# Altium schematic symbol library kmilo17pet-AD_Isolators.SchLib: 645 symbols (part 26 of 36)
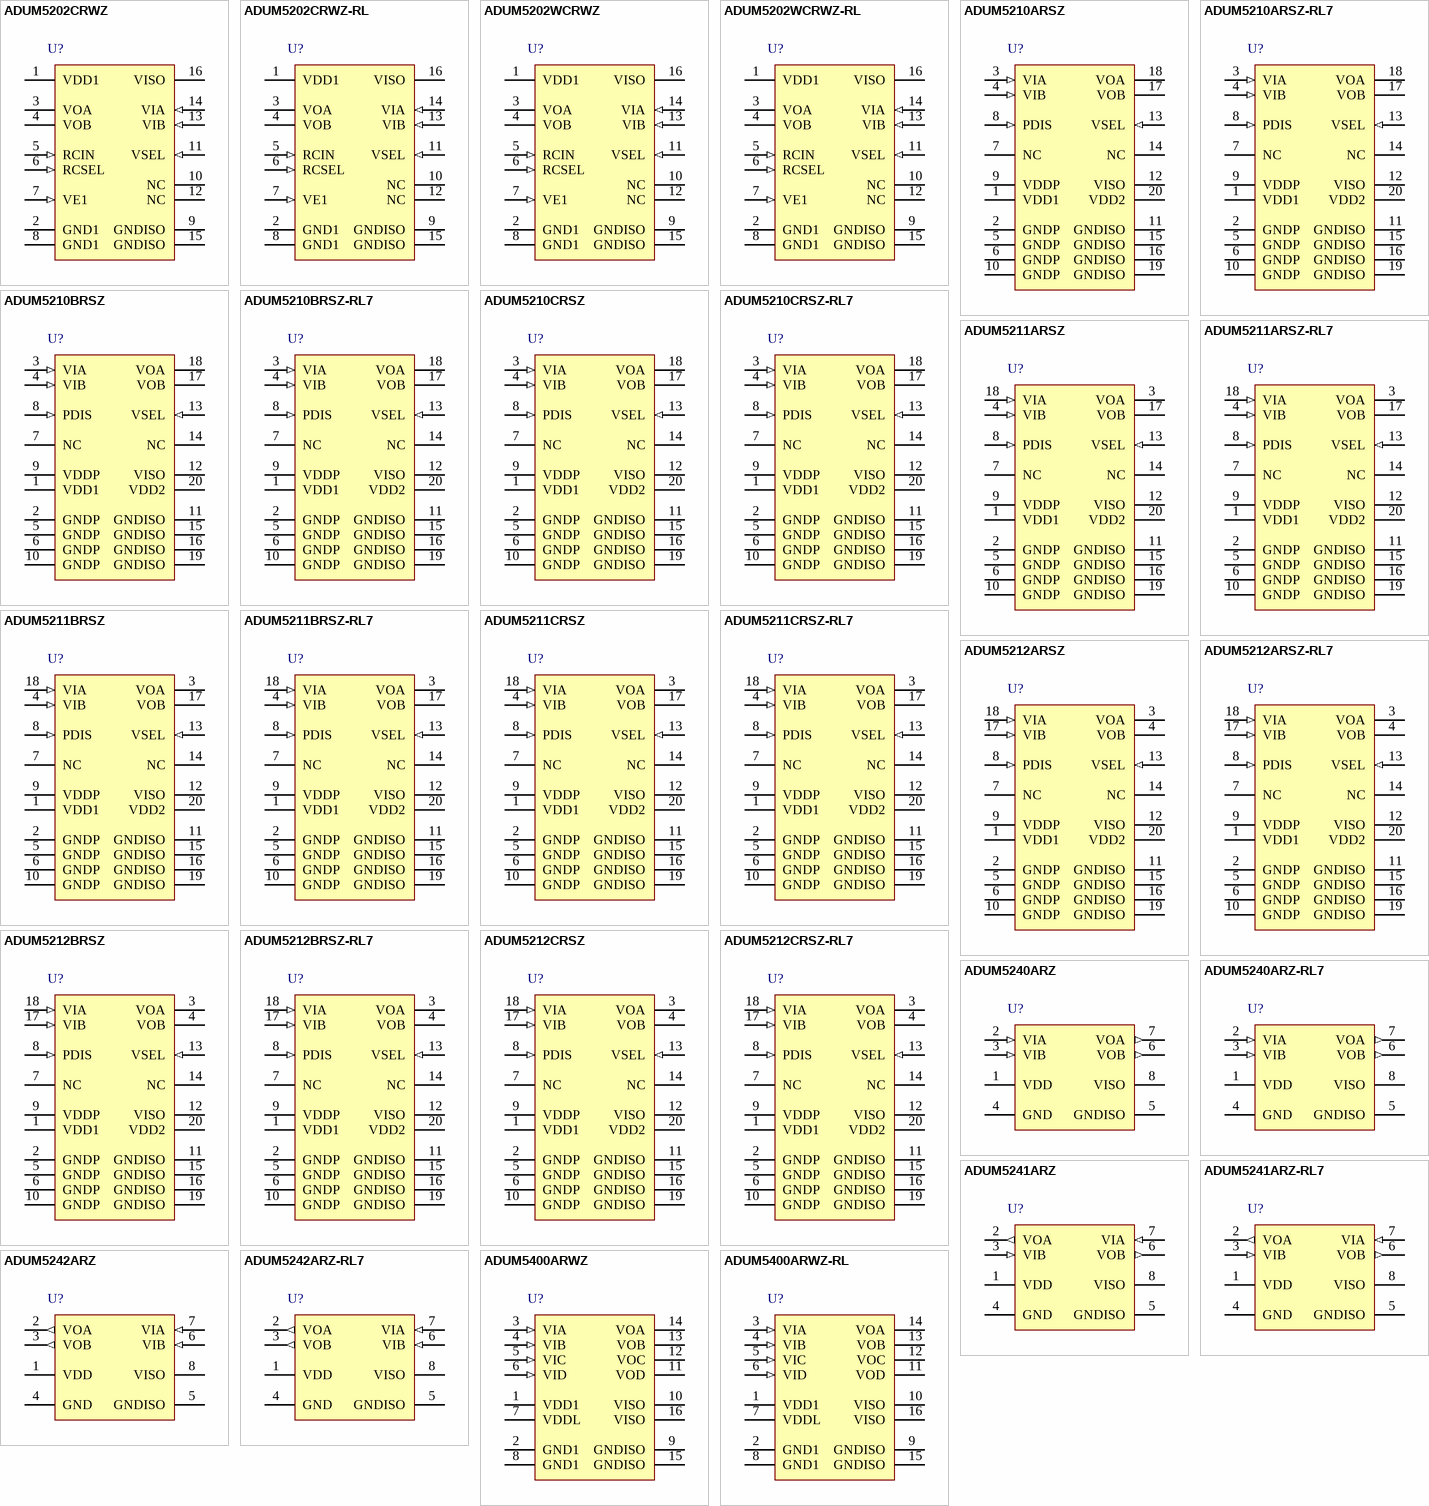
[diagram p45: symbols ADUM5202CRWZ to ADUM5400ARWZ-RL]

## ADUM5242ARZ
designator U?
Dual Channel Isolator with Integrated DC / DC Converter, 2.5 KV rms Insulation Rating, 1 Mbps Data Rate, 70 ns Delay, Industrial, 8-pin SOIC (R-8), Tube; Manufacturer: Analog Devices; PartNumber: ADUM5242ARZ; Insulation Rating (kVrms): 2.5; Max Data Rate: 1Mbps; Prop Delay: 70ns; DatasheetVersion: Rev. B; PackageVersion: 060506-A, 06/2006; PackageReference: R-8; PackageDescription: 8-Pin Standard Small Outline Package, Body 4.9 x 3.9 mm, Pitch 1.27 mm; Supplier 1: Digi-Key; Supplier Part Number 1: ADUM5242ARZ-ND; Max Operating Temp (degreesC): 105; Mounting Technology: Surface Mount; Code_JEDEC: MS-012-AA; ComponentLink1Description: Manufacturer URL; ComponentLink1URL: http://www.analog.com/en/index.html; ComponentLink2Description: Datasheet; ComponentLink2URL: http://www.analog.com/static/imported-files/data_sheets/ADUM5240_5241_5242.pdf; ComponentLink3Description: Package Specification; ComponentLink3URL: http://www.analog.com/static/imported-files/packages/PKG_PDF/SOIC_Narrow%20(R)/R_8.pdf
footprint ADI-R-8_N (SOIC, 8-Leads, Body 4.9x3.9mm, Pitch 1.27mm, IPC Medium Density)
footprint ADI-R-8_L (SOIC, 8-Leads, Body 4.9x3.9mm, Pitch 1.27mm, IPC High Density)
footprint ADI-R-8_M (SOIC, 8-Leads, Body 4.9x3.9mm, Pitch 1.27mm, IPC Low Density)
pins: 1 VDD (power) "Supply Voltage for Isolator Primary Side, 4.5 V to 5.5 V (DC-to-DC Enabled) and 2.7 V to 4.0 V (DC-to-DC Disabled).", 2 VOA (out) "Logic Output A.", 3 VOB (out) "Logic Output B.", 4 GND (power) "Ground. Ground reference for isolator primary side.", 5 GNDISO (power) "Isolated Ground. Ground reference for isolator secondary side.", 6 VIB (in) "Logic Input B.", 7 VIA (in) "Logic Input A.", 8 VISO (power) "Isolated Supply Voltage for Isolator Secondary Side, 4.5 V to 5.5 V Output (DC-to-DC Enabled), and 2.7 V to 5.5 V Input (DC-to-DC Disabled)."

## ADUM5242ARZ-RL7
designator U?
Dual Channel Isolator with Integrated DC / DC Converter, 2.5 KV rms Insulation Rating, 1 Mbps Data Rate, 70 ns Delay, Industrial, 8-pin SOIC (R-8), Reel; Manufacturer: Analog Devices; PartNumber: ADUM5242ARZ-RL7; Insulation Rating (kVrms): 2.5; Max Data Rate: 1Mbps; Prop Delay: 70ns; DatasheetVersion: Rev. B; PackageVersion: 060506-A, 06/2006; PackageReference: R-8; PackageDescription: 8-Pin Standard Small Outline Package, Body 4.9 x 3.9 mm, Pitch 1.27 mm; Supplier 1: Digi-Key; Supplier Part Number 1: ADUM5242ARZ-RL7TR-ND; Max Operating Temp (degreesC): 105; Mounting Technology: Surface Mount; Code_JEDEC: MS-012-AA; ComponentLink1Description: Manufacturer URL; ComponentLink1URL: http://www.analog.com/en/index.html; ComponentLink2Description: Datasheet; ComponentLink2URL: http://www.analog.com/static/imported-files/data_sheets/ADUM5240_5241_5242.pdf; ComponentLink3Description: Package Specification; ComponentLink3URL: http://www.analog.com/static/imported-files/packages/PKG_PDF/SOIC_Narrow%20(R)/R_8.pdf
footprint ADI-R-8_N (SOIC, 8-Leads, Body 4.9x3.9mm, Pitch 1.27mm, IPC Medium Density)
footprint ADI-R-8_L (SOIC, 8-Leads, Body 4.9x3.9mm, Pitch 1.27mm, IPC High Density)
footprint ADI-R-8_M (SOIC, 8-Leads, Body 4.9x3.9mm, Pitch 1.27mm, IPC Low Density)
pins: 1 VDD (power) "Supply Voltage for Isolator Primary Side, 4.5 V to 5.5 V (DC-to-DC Enabled) and 2.7 V to 4.0 V (DC-to-DC Disabled).", 2 VOA (out) "Logic Output A.", 3 VOB (out) "Logic Output B.", 4 GND (power) "Ground. Ground reference for isolator primary side.", 5 GNDISO (power) "Isolated Ground. Ground reference for isolator secondary side.", 6 VIB (in) "Logic Input B.", 7 VIA (in) "Logic Input A.", 8 VISO (power) "Isolated Supply Voltage for Isolator Secondary Side, 4.5 V to 5.5 V Output (DC-to-DC Enabled), and 2.7 V to 5.5 V Input (DC-to-DC Disabled)."

## ADUM5400ARWZ
designator U?
Dual Channel Isolator with Integrated DC / DC Converter, 2.5 KV rms Insulation Rating, 1 Mbps Data Rate, 100 ns Delay, Industrial, 16-pin SOIC (RW-16), Tube; Manufacturer: Analog Devices; PartNumber: ADUM5400ARWZ; Insulation Rating (kVrms): 2.5; Max Data Rate: 1Mbps; Prop Delay: 100ns; DatasheetVersion: Rev. B; PackageVersion: 032707-B, 03/2007; PackageReference: RW-16; PackageDescription: 16-Pin Standard Small Outline Package, Body 10.3 x 7.5 mm, Pitch 1.27 mm; Supplier 1: Digi-Key; Supplier Part Number 1: ADUM5400ARWZ-ND; Max Operating Temp (degreesC): 105; Mounting Technology: Surface Mount; Code_JEDEC: MS-013-AA; ComponentLink1Description: Manufacturer URL; ComponentLink1URL: http://www.analog.com/en/index.html; ComponentLink2Description: Datasheet; ComponentLink2URL: http://www.analog.com/static/imported-files/data_sheets/ADuM5400.pdf; ComponentLink3Description: Package Specification; ComponentLink3URL: http://www.analog.com/static/imported-files/packages/PKG_PDF/SOIC_WIDE%20%28RW%29/RW_16.pdf; ComponentLink4Description: URL Link1; ComponentLink4URL: Reference Circuit:http://www.analog.com/en/interface-isolation/digital-isolators/adum5400/products/product.html#product-recommendations
footprint ADI-RW-16_N (SOIC, 16-Leads, Body 10.3x7.5mm, Pitch 1.27mm, IPC Medium Density)
footprint ADI-RW-16_L (SOIC, 16-Leads, Body 10.3x7.5mm, Pitch 1.27mm, IPC High Density)
footprint ADI-RW-16_M (SOIC, 16-Leads, Body 10.3x7.5mm, Pitch 1.27mm, IPC Low Density)
pins: 1 VDD1 (power) "Primary Supply Voltage, 4.5 V to 5.5 V.", 2 GND1 (power) "Ground 1. Ground reference for isolator primary. Pin 2 and Pin 8 are internally connected to each other, and it is recommended that both pins be connected to a common ground.", 3 VIA (in) "Logic Input A.", 4 VIB (in) "Logic Input B.", 5 VIC (in) "Logic Input C.", 6 VID (in) "Logic Input D.", 7 VDDL (power) "Logic Power Supply Voltage. This pin must be connected to VDD1 and have a dedicated bypass capacitor.", 8 GND1 (power) "Ground 1. Ground reference for isolator primary. Pin 2 and Pin 8 are internally connected to each other, and it is recommended that both pins be connected to a common ground.", 9 GNDISO (power) "Ground Reference for Isolator Side 2. Pin 9 and Pin 15 are internally connected to each other, and it is recommended that both pins be connected to a common ground.", 10 VISO (power) "Secondary Supply Voltage Output for External Loads, 5.0 V. These pins are not tied together internally and must be connected together on the PCB.", 11 VOD (hiz) "Logic Output D.", 12 VOC (hiz) "Logic Output C.", 13 VOB (hiz) "Logic Output B.", 14 VOA (hiz) "Logic Output A.", 15 GNDISO (power) "Ground Reference for Isolator Side 2. Pin 9 and Pin 15 are internally connected to each other, and it is recommended that both pins be connected to a common ground.", 16 VISO (power) "Secondary Supply Voltage Output for External Loads, 5.0 V. These pins are not tied together internally and must be connected together on the PCB."

## ADUM5400ARWZ-RL
designator U?
Dual Channel Isolator with Integrated DC / DC Converter, 2.5 KV rms Insulation Rating, 1 Mbps Data Rate, 100 ns Delay, Industrial, 16-pin SOIC (RW-16), Reel; Manufacturer: Analog Devices; PartNumber: ADUM5400ARWZ-RL; Insulation Rating (kVrms): 2.5; Max Data Rate: 1Mbps; Prop Delay: 100ns; DatasheetVersion: Rev. B; PackageVersion: 032707-B, 03/2007; PackageReference: RW-16; PackageDescription: 16-Pin Standard Small Outline Package, Body 10.3 x 7.5 mm, Pitch 1.27 mm; Supplier 1: Digi-Key; Supplier Part Number 1: ADUM5400ARWZ-RL-ND; Max Operating Temp (degreesC): 105; Mounting Technology: Surface Mount; Code_JEDEC: MS-013-AA; ComponentLink1Description: Manufacturer URL; ComponentLink1URL: http://www.analog.com/en/index.html; ComponentLink2Description: Datasheet; ComponentLink2URL: http://www.analog.com/static/imported-files/data_sheets/ADuM5400.pdf; ComponentLink3Description: Package Specification; ComponentLink3URL: http://www.analog.com/static/imported-files/packages/PKG_PDF/SOIC_WIDE%20%28RW%29/RW_16.pdf; ComponentLink4Description: URL Link1; ComponentLink4URL: Reference Circuit:http://www.analog.com/en/interface-isolation/digital-isolators/adum5400/products/product.html#product-recommendations
footprint ADI-RW-16_N (SOIC, 16-Leads, Body 10.3x7.5mm, Pitch 1.27mm, IPC Medium Density)
footprint ADI-RW-16_L (SOIC, 16-Leads, Body 10.3x7.5mm, Pitch 1.27mm, IPC High Density)
footprint ADI-RW-16_M (SOIC, 16-Leads, Body 10.3x7.5mm, Pitch 1.27mm, IPC Low Density)
pins: 1 VDD1 (power) "Primary Supply Voltage, 4.5 V to 5.5 V.", 2 GND1 (power) "Ground 1. Ground reference for isolator primary. Pin 2 and Pin 8 are internally connected to each other, and it is recommended that both pins be connected to a common ground.", 3 VIA (in) "Logic Input A.", 4 VIB (in) "Logic Input B.", 5 VIC (in) "Logic Input C.", 6 VID (in) "Logic Input D.", 7 VDDL (power) "Logic Power Supply Voltage. This pin must be connected to VDD1 and have a dedicated bypass capacitor.", 8 GND1 (power) "Ground 1. Ground reference for isolator primary. Pin 2 and Pin 8 are internally connected to each other, and it is recommended that both pins be connected to a common ground.", 9 GNDISO (power) "Ground Reference for Isolator Side 2. Pin 9 and Pin 15 are internally connected to each other, and it is recommended that both pins be connected to a common ground.", 10 VISO (power) "Secondary Supply Voltage Output for External Loads, 5.0 V. These pins are not tied together internally and must be connected together on the PCB.", 11 VOD (hiz) "Logic Output D.", 12 VOC (hiz) "Logic Output C.", 13 VOB (hiz) "Logic Output B.", 14 VOA (hiz) "Logic Output A.", 15 GNDISO (power) "Ground Reference for Isolator Side 2. Pin 9 and Pin 15 are internally connected to each other, and it is recommended that both pins be connected to a common ground.", 16 VISO (power) "Secondary Supply Voltage Output for External Loads, 5.0 V. These pins are not tied together internally and must be connected together on the PCB."

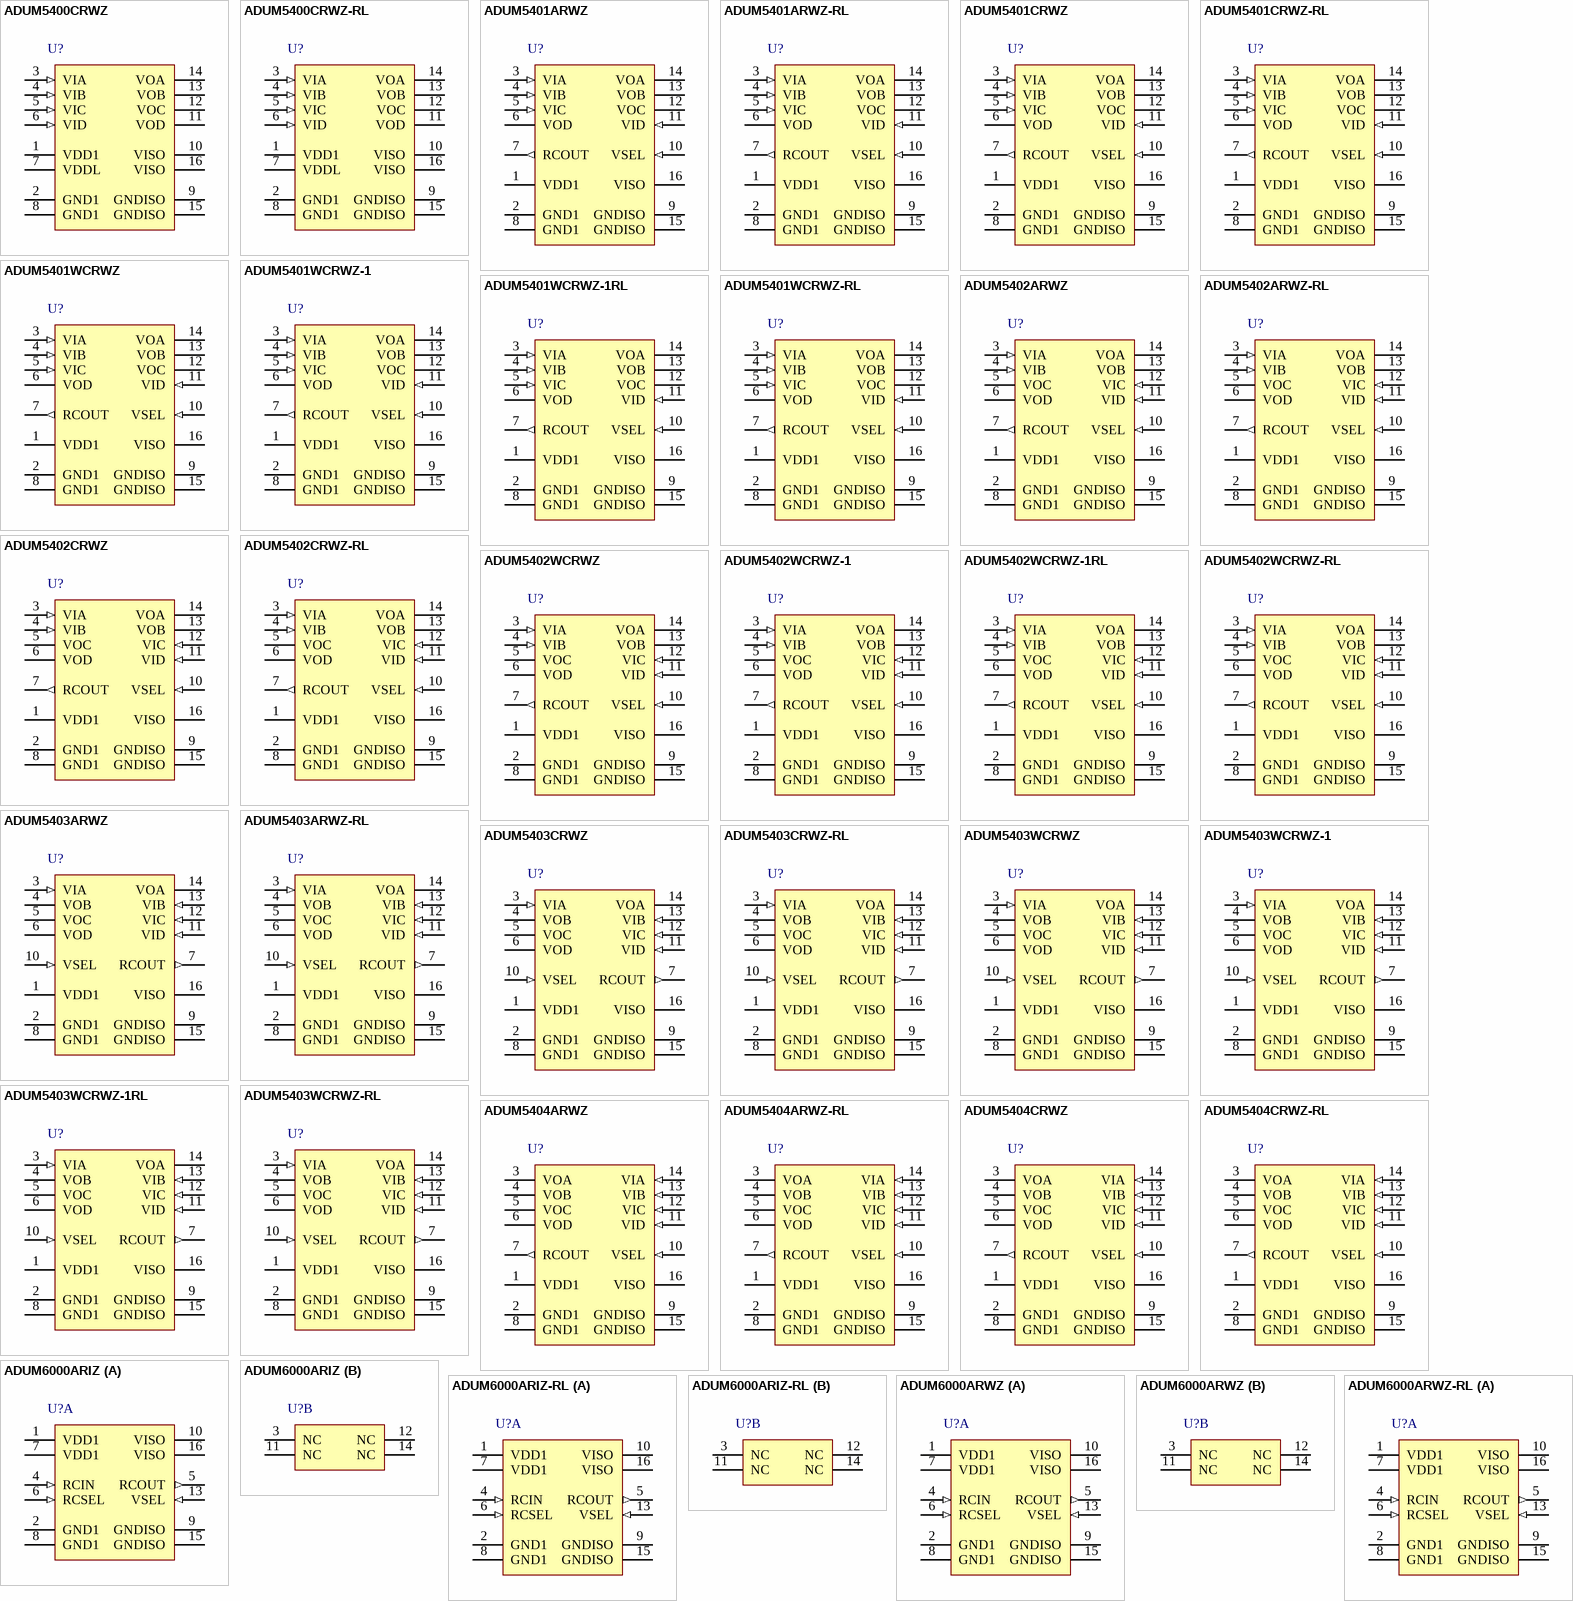
[diagram p16: symbols ADUM5400CRWZ to ADUM6000ARWZ-RL]

## ADUM5400CRWZ
designator U?
Dual Channel Isolator with Integrated DC / DC Converter, 2.5 KV rms Insulation Rating, 25 Mbps Data Rate, 60 ns Delay, Industrial, 16-pin SOIC (RW-16), Tube; Manufacturer: Analog Devices; PartNumber: ADUM5400CRWZ; Insulation Rating (kVrms): 2.5; Max Data Rate: 25Mbps; Prop Delay: 60ns; DatasheetVersion: Rev. B; PackageVersion: 032707-B, 03/2007; PackageReference: RW-16; PackageDescription: 16-Pin Standard Small Outline Package, Body 10.3 x 7.5 mm, Pitch 1.27 mm; Supplier 1: Digi-Key; Supplier Part Number 1: ADUM5400CRWZ-ND; Max Operating Temp (degreesC): 105; Mounting Technology: Surface Mount; Code_JEDEC: MS-013-AA; ComponentLink1Description: Manufacturer URL; ComponentLink1URL: http://www.analog.com/en/index.html; ComponentLink2Description: Datasheet; ComponentLink2URL: http://www.analog.com/static/imported-files/data_sheets/ADuM5400.pdf; ComponentLink3Description: Package Specification; ComponentLink3URL: http://www.analog.com/static/imported-files/packages/PKG_PDF/SOIC_WIDE%20%28RW%29/RW_16.pdf; ComponentLink4Description: URL Link1; ComponentLink4URL: Reference Circuit:http://www.analog.com/en/interface-isolation/digital-isolators/adum5400/products/product.html#product-recommendations
footprint ADI-RW-16_N (SOIC, 16-Leads, Body 10.3x7.5mm, Pitch 1.27mm, IPC Medium Density)
footprint ADI-RW-16_L (SOIC, 16-Leads, Body 10.3x7.5mm, Pitch 1.27mm, IPC High Density)
footprint ADI-RW-16_M (SOIC, 16-Leads, Body 10.3x7.5mm, Pitch 1.27mm, IPC Low Density)
pins: 1 VDD1 (power) "Primary Supply Voltage, 4.5 V to 5.5 V.", 2 GND1 (power) "Ground 1. Ground reference for isolator primary. Pin 2 and Pin 8 are internally connected to each other, and it is recommended that both pins be connected to a common ground.", 3 VIA (in) "Logic Input A.", 4 VIB (in) "Logic Input B.", 5 VIC (in) "Logic Input C.", 6 VID (in) "Logic Input D.", 7 VDDL (power) "Logic Power Supply Voltage. This pin must be connected to VDD1 and have a dedicated bypass capacitor.", 8 GND1 (power) "Ground 1. Ground reference for isolator primary. Pin 2 and Pin 8 are internally connected to each other, and it is recommended that both pins be connected to a common ground.", 9 GNDISO (power) "Ground Reference for Isolator Side 2. Pin 9 and Pin 15 are internally connected to each other, and it is recommended that both pins be connected to a common ground.", 10 VISO (power) "Secondary Supply Voltage Output for External Loads, 5.0 V. These pins are not tied together internally and must be connected together on the PCB.", 11 VOD (hiz) "Logic Output D.", 12 VOC (hiz) "Logic Output C.", 13 VOB (hiz) "Logic Output B.", 14 VOA (hiz) "Logic Output A.", 15 GNDISO (power) "Ground Reference for Isolator Side 2. Pin 9 and Pin 15 are internally connected to each other, and it is recommended that both pins be connected to a common ground.", 16 VISO (power) "Secondary Supply Voltage Output for External Loads, 5.0 V. These pins are not tied together internally and must be connected together on the PCB."

## ADUM5400CRWZ-RL
designator U?
Dual Channel Isolator with Integrated DC / DC Converter, 2.5 KV rms Insulation Rating, 25 Mbps Data Rate, 60 ns Delay, Industrial, 16-pin SOIC (RW-16), Reel; Manufacturer: Analog Devices; PartNumber: ADUM5400CRWZ-RL; Insulation Rating (kVrms): 2.5; Max Data Rate: 25Mbps; Prop Delay: 60ns; DatasheetVersion: Rev. B; PackageVersion: 032707-B, 03/2007; PackageReference: RW-16; PackageDescription: 16-Pin Standard Small Outline Package, Body 10.3 x 7.5 mm, Pitch 1.27 mm; Supplier 1: Digi-Key; Supplier Part Number 1: ADUM5400CRWZ-RL-ND; Max Operating Temp (degreesC): 105; Mounting Technology: Surface Mount; Code_JEDEC: MS-013-AA; ComponentLink1Description: Manufacturer URL; ComponentLink1URL: http://www.analog.com/en/index.html; ComponentLink2Description: Datasheet; ComponentLink2URL: http://www.analog.com/static/imported-files/data_sheets/ADuM5400.pdf; ComponentLink3Description: Package Specification; ComponentLink3URL: http://www.analog.com/static/imported-files/packages/PKG_PDF/SOIC_WIDE%20%28RW%29/RW_16.pdf; ComponentLink4Description: URL Link1; ComponentLink4URL: Reference Circuit:http://www.analog.com/en/interface-isolation/digital-isolators/adum5400/products/product.html#product-recommendations
footprint ADI-RW-16_N (SOIC, 16-Leads, Body 10.3x7.5mm, Pitch 1.27mm, IPC Medium Density)
footprint ADI-RW-16_L (SOIC, 16-Leads, Body 10.3x7.5mm, Pitch 1.27mm, IPC High Density)
footprint ADI-RW-16_M (SOIC, 16-Leads, Body 10.3x7.5mm, Pitch 1.27mm, IPC Low Density)
pins: 1 VDD1 (power) "Primary Supply Voltage, 4.5 V to 5.5 V.", 2 GND1 (power) "Ground 1. Ground reference for isolator primary. Pin 2 and Pin 8 are internally connected to each other, and it is recommended that both pins be connected to a common ground.", 3 VIA (in) "Logic Input A.", 4 VIB (in) "Logic Input B.", 5 VIC (in) "Logic Input C.", 6 VID (in) "Logic Input D.", 7 VDDL (power) "Logic Power Supply Voltage. This pin must be connected to VDD1 and have a dedicated bypass capacitor.", 8 GND1 (power) "Ground 1. Ground reference for isolator primary. Pin 2 and Pin 8 are internally connected to each other, and it is recommended that both pins be connected to a common ground.", 9 GNDISO (power) "Ground Reference for Isolator Side 2. Pin 9 and Pin 15 are internally connected to each other, and it is recommended that both pins be connected to a common ground.", 10 VISO (power) "Secondary Supply Voltage Output for External Loads, 5.0 V. These pins are not tied together internally and must be connected together on the PCB.", 11 VOD (hiz) "Logic Output D.", 12 VOC (hiz) "Logic Output C.", 13 VOB (hiz) "Logic Output B.", 14 VOA (hiz) "Logic Output A.", 15 GNDISO (power) "Ground Reference for Isolator Side 2. Pin 9 and Pin 15 are internally connected to each other, and it is recommended that both pins be connected to a common ground.", 16 VISO (power) "Secondary Supply Voltage Output for External Loads, 5.0 V. These pins are not tied together internally and must be connected together on the PCB."

## ADUM5401ARWZ
designator U?
Quad Channel Isolator with Integrated DC / DC Converter, 2.5 KV rms Insulation Rating, 1 Mbps Data Rate, 100 ns Delay, Industrial, 16-pin SOIC (RW-16), Tube; Manufacturer: Analog Devices; PartNumber: ADUM5401ARWZ; Insulation Rating (kVrms): 2.5; Max Data Rate: 1Mbps; Prop Delay: 100ns; DatasheetVersion: Rev. C; PackageVersion: 032707-B, 03/2007; PackageReference: RW-16; PackageDescription: 16-Pin Standard Small Outline Package, Body 10.3 x 7.5 mm, Pitch 1.27 mm; Supplier 1: Digi-Key; Supplier Part Number 1: ADUM5401ARWZ-ND; Max Operating Temp (degreesC): 105; Mounting Technology: Surface Mount; Code_JEDEC: MS-013-AA; ComponentLink1Description: Manufacturer URL; ComponentLink1URL: http://www.analog.com/en/index.html; ComponentLink2Description: Datasheet; ComponentLink2URL: http://www.analog.com/static/imported-files/data_sheets/ADuM5401_5402_5403_5404.pdf; ComponentLink3Description: Package Specification; ComponentLink3URL: http://www.analog.com/static/imported-files/packages/PKG_PDF/SOIC_WIDE%20%28RW%29/RW_16.pdf; ComponentLink4Description: URL Link1; ComponentLink4URL: Reference Circuit:http://www.analog.com/en/interface-isolation/digital-isolators/adum5401/products/product.html#product-recommendations
footprint ADI-RW-16_N (SOIC, 16-Leads, Body 10.3x7.5mm, Pitch 1.27mm, IPC Medium Density)
footprint ADI-RW-16_L (SOIC, 16-Leads, Body 10.3x7.5mm, Pitch 1.27mm, IPC High Density)
footprint ADI-RW-16_M (SOIC, 16-Leads, Body 10.3x7.5mm, Pitch 1.27mm, IPC Low Density)
pins: 1 VDD1 (power) "Primary Supply Voltage, 3.0 V to 5.5 V.", 2 GND1 (power) "Ground 1. Ground reference for isolator primary. Pin 2 and Pin 8 are internally connected, and it is recommended that both pins be connected to a common ground.", 3 VIA (in) "Logic Input A.", 4 VIB (in) "Logic Input B.", 5 VIC (in) "Logic Input C.", 6 VOD (hiz) "Logic Output D.", 7 RCOUT (out) "Regulation Control Output. This pin is connected to the RCIN pin of a slave isoPower device to allow the ADuM5401 to control the regulation of the slave device.", 8 GND1 (power) "Ground 1. Ground reference for isolator primary. Pin 2 and Pin 8 are internally connected, and it is recommended that both pins be connected to a common ground.", 9 GNDISO (power) "Ground Reference for Isolator Side 2. Pin 9 and Pin 15 are internally connected, and it is recommended that both pins be connected to a common ground.", 10 VSEL (in) "Output Voltage Selection. When VSEL = VISO, the VISO setpoint is 5.0 V. When VSEL = GNDISO, the VISO setpoint is 3.3 V.", 11 VID (in) "Logic Input D.", 12 VOC (hiz) "Logic Output C.", 13 VOB (hiz) "Logic Output B.", 14 VOA (hiz) "Logic Output A.", 15 GNDISO (power) "Ground Reference for Isolator Side 2. Pin 9 and Pin 15 are internally connected, and it is recommended that both pins be connected to a common ground.", 16 VISO (power) "Secondary Supply Voltage Output for External Loads, 3.3 V (VSEL Low) or 5.0 V (VSEL High)."

## ADUM5401ARWZ-RL
designator U?
Quad Channel Isolator with Integrated DC / DC Converter, 2.5 KV rms Insulation Rating, 1 Mbps Data Rate, 100 ns Delay, Industrial, 16-pin SOIC (RW-16), Reel; Manufacturer: Analog Devices; PartNumber: ADUM5401ARWZ-RL; Insulation Rating (kVrms): 2.5; Max Data Rate: 1Mbps; Prop Delay: 100ns; DatasheetVersion: Rev. C; PackageVersion: 032707-B, 03/2007; PackageReference: RW-16; PackageDescription: 16-Pin Standard Small Outline Package, Body 10.3 x 7.5 mm, Pitch 1.27 mm; Supplier 1: Digi-Key; Supplier Part Number 1: ADUM5401ARWZ-RLTR-ND; Max Operating Temp (degreesC): 105; Mounting Technology: Surface Mount; Code_JEDEC: MS-013-AA; ComponentLink1Description: Manufacturer URL; ComponentLink1URL: http://www.analog.com/en/index.html; ComponentLink2Description: Datasheet; ComponentLink2URL: http://www.analog.com/static/imported-files/data_sheets/ADuM5401_5402_5403_5404.pdf; ComponentLink3Description: Package Specification; ComponentLink3URL: http://www.analog.com/static/imported-files/packages/PKG_PDF/SOIC_WIDE%20%28RW%29/RW_16.pdf; ComponentLink4Description: URL Link1; ComponentLink4URL: Reference Circuit:http://www.analog.com/en/interface-isolation/digital-isolators/adum5401/products/product.html#product-recommendations
footprint ADI-RW-16_N (SOIC, 16-Leads, Body 10.3x7.5mm, Pitch 1.27mm, IPC Medium Density)
footprint ADI-RW-16_L (SOIC, 16-Leads, Body 10.3x7.5mm, Pitch 1.27mm, IPC High Density)
footprint ADI-RW-16_M (SOIC, 16-Leads, Body 10.3x7.5mm, Pitch 1.27mm, IPC Low Density)
pins: 1 VDD1 (power) "Primary Supply Voltage, 3.0 V to 5.5 V.", 2 GND1 (power) "Ground 1. Ground reference for isolator primary. Pin 2 and Pin 8 are internally connected, and it is recommended that both pins be connected to a common ground.", 3 VIA (in) "Logic Input A.", 4 VIB (in) "Logic Input B.", 5 VIC (in) "Logic Input C.", 6 VOD (hiz) "Logic Output D.", 7 RCOUT (out) "Regulation Control Output. This pin is connected to the RCIN pin of a slave isoPower device to allow the ADuM5401 to control the regulation of the slave device.", 8 GND1 (power) "Ground 1. Ground reference for isolator primary. Pin 2 and Pin 8 are internally connected, and it is recommended that both pins be connected to a common ground.", 9 GNDISO (power) "Ground Reference for Isolator Side 2. Pin 9 and Pin 15 are internally connected, and it is recommended that both pins be connected to a common ground.", 10 VSEL (in) "Output Voltage Selection. When VSEL = VISO, the VISO setpoint is 5.0 V. When VSEL = GNDISO, the VISO setpoint is 3.3 V.", 11 VID (in) "Logic Input D.", 12 VOC (hiz) "Logic Output C.", 13 VOB (hiz) "Logic Output B.", 14 VOA (hiz) "Logic Output A.", 15 GNDISO (power) "Ground Reference for Isolator Side 2. Pin 9 and Pin 15 are internally connected, and it is recommended that both pins be connected to a common ground.", 16 VISO (power) "Secondary Supply Voltage Output for External Loads, 3.3 V (VSEL Low) or 5.0 V (VSEL High)."

## ADUM5401CRWZ
designator U?
Quad Channel Isolator with Integrated DC / DC Converter, 2.5 KV rms Insulation Rating, 25 Mbps Data Rate, 60 ns Delay, Industrial, 16-pin SOIC (RW-16), Tube; Manufacturer: Analog Devices; PartNumber: ADUM5401CRWZ; Insulation Rating (kVrms): 2.5; Max Data Rate: 25Mbps; Prop Delay: 60ns; DatasheetVersion: Rev. C; PackageVersion: 032707-B, 03/2007; PackageReference: RW-16; PackageDescription: 16-Pin Standard Small Outline Package, Body 10.3 x 7.5 mm, Pitch 1.27 mm; Supplier 1: Digi-Key; Supplier Part Number 1: ADUM5401CRWZ-ND; Max Operating Temp (degreesC): 105; Mounting Technology: Surface Mount; Code_JEDEC: MS-013-AA; ComponentLink1Description: Manufacturer URL; ComponentLink1URL: http://www.analog.com/en/index.html; ComponentLink2Description: Datasheet; ComponentLink2URL: http://www.analog.com/static/imported-files/data_sheets/ADuM5401_5402_5403_5404.pdf; ComponentLink3Description: Package Specification; ComponentLink3URL: http://www.analog.com/static/imported-files/packages/PKG_PDF/SOIC_WIDE%20%28RW%29/RW_16.pdf; ComponentLink4Description: URL Link1; ComponentLink4URL: Reference Circuit:http://www.analog.com/en/interface-isolation/digital-isolators/adum5401/products/product.html#product-recommendations
footprint ADI-RW-16_N (SOIC, 16-Leads, Body 10.3x7.5mm, Pitch 1.27mm, IPC Medium Density)
footprint ADI-RW-16_L (SOIC, 16-Leads, Body 10.3x7.5mm, Pitch 1.27mm, IPC High Density)
footprint ADI-RW-16_M (SOIC, 16-Leads, Body 10.3x7.5mm, Pitch 1.27mm, IPC Low Density)
pins: 1 VDD1 (power) "Primary Supply Voltage, 3.0 V to 5.5 V.", 2 GND1 (power) "Ground 1. Ground reference for isolator primary. Pin 2 and Pin 8 are internally connected, and it is recommended that both pins be connected to a common ground.", 3 VIA (in) "Logic Input A.", 4 VIB (in) "Logic Input B.", 5 VIC (in) "Logic Input C.", 6 VOD (hiz) "Logic Output D.", 7 RCOUT (out) "Regulation Control Output. This pin is connected to the RCIN pin of a slave isoPower device to allow the ADuM5401 to control the regulation of the slave device.", 8 GND1 (power) "Ground 1. Ground reference for isolator primary. Pin 2 and Pin 8 are internally connected, and it is recommended that both pins be connected to a common ground.", 9 GNDISO (power) "Ground Reference for Isolator Side 2. Pin 9 and Pin 15 are internally connected, and it is recommended that both pins be connected to a common ground.", 10 VSEL (in) "Output Voltage Selection. When VSEL = VISO, the VISO setpoint is 5.0 V. When VSEL = GNDISO, the VISO setpoint is 3.3 V.", 11 VID (in) "Logic Input D.", 12 VOC (hiz) "Logic Output C.", 13 VOB (hiz) "Logic Output B.", 14 VOA (hiz) "Logic Output A.", 15 GNDISO (power) "Ground Reference for Isolator Side 2. Pin 9 and Pin 15 are internally connected, and it is recommended that both pins be connected to a common ground.", 16 VISO (power) "Secondary Supply Voltage Output for External Loads, 3.3 V (VSEL Low) or 5.0 V (VSEL High)."

## ADUM5401CRWZ-RL
designator U?
Quad Channel Isolator with Integrated DC / DC Converter, 2.5 KV rms Insulation Rating, 25 Mbps Data Rate, 60 ns Delay, Industrial, 16-pin SOIC (RW-16), Reel; Manufacturer: Analog Devices; PartNumber: ADUM5401CRWZ-RL; Insulation Rating (kVrms): 2.5; Max Data Rate: 25Mbps; Prop Delay: 60ns; DatasheetVersion: Rev. C; PackageVersion: 032707-B, 03/2007; PackageReference: RW-16; PackageDescription: 16-Pin Standard Small Outline Package, Body 10.3 x 7.5 mm, Pitch 1.27 mm; Supplier 1: Digi-Key; Supplier Part Number 1: ADUM5401CRWZ-RLTR-ND; Max Operating Temp (degreesC): 105; Mounting Technology: Surface Mount; Code_JEDEC: MS-013-AA; ComponentLink1Description: Manufacturer URL; ComponentLink1URL: http://www.analog.com/en/index.html; ComponentLink2Description: Datasheet; ComponentLink2URL: http://www.analog.com/static/imported-files/data_sheets/ADuM5401_5402_5403_5404.pdf; ComponentLink3Description: Package Specification; ComponentLink3URL: http://www.analog.com/static/imported-files/packages/PKG_PDF/SOIC_WIDE%20%28RW%29/RW_16.pdf; ComponentLink4Description: URL Link1; ComponentLink4URL: Reference Circuit:http://www.analog.com/en/interface-isolation/digital-isolators/adum5401/products/product.html#product-recommendations
footprint ADI-RW-16_N (SOIC, 16-Leads, Body 10.3x7.5mm, Pitch 1.27mm, IPC Medium Density)
footprint ADI-RW-16_L (SOIC, 16-Leads, Body 10.3x7.5mm, Pitch 1.27mm, IPC High Density)
footprint ADI-RW-16_M (SOIC, 16-Leads, Body 10.3x7.5mm, Pitch 1.27mm, IPC Low Density)
pins: 1 VDD1 (power) "Primary Supply Voltage, 3.0 V to 5.5 V.", 2 GND1 (power) "Ground 1. Ground reference for isolator primary. Pin 2 and Pin 8 are internally connected, and it is recommended that both pins be connected to a common ground.", 3 VIA (in) "Logic Input A.", 4 VIB (in) "Logic Input B.", 5 VIC (in) "Logic Input C.", 6 VOD (hiz) "Logic Output D.", 7 RCOUT (out) "Regulation Control Output. This pin is connected to the RCIN pin of a slave isoPower device to allow the ADuM5401 to control the regulation of the slave device.", 8 GND1 (power) "Ground 1. Ground reference for isolator primary. Pin 2 and Pin 8 are internally connected, and it is recommended that both pins be connected to a common ground.", 9 GNDISO (power) "Ground Reference for Isolator Side 2. Pin 9 and Pin 15 are internally connected, and it is recommended that both pins be connected to a common ground.", 10 VSEL (in) "Output Voltage Selection. When VSEL = VISO, the VISO setpoint is 5.0 V. When VSEL = GNDISO, the VISO setpoint is 3.3 V.", 11 VID (in) "Logic Input D.", 12 VOC (hiz) "Logic Output C.", 13 VOB (hiz) "Logic Output B.", 14 VOA (hiz) "Logic Output A.", 15 GNDISO (power) "Ground Reference for Isolator Side 2. Pin 9 and Pin 15 are internally connected, and it is recommended that both pins be connected to a common ground.", 16 VISO (power) "Secondary Supply Voltage Output for External Loads, 3.3 V (VSEL Low) or 5.0 V (VSEL High)."

## ADUM5401WCRWZ
designator U?
Quad Channel Isolator with Integrated DC / DC Converter, 2.5 KV rms Insulation Rating, 25 Mbps Data Rate, 60 ns Delay, Automotive, 16-pin SOIC (RW-16), Tube; Manufacturer: Analog Devices; PartNumber: ADUM5401WCRWZ; Automotive Qualified: Yes; Insulation Rating (kVrms): 2.5; Max Data Rate: 25Mbps; Prop Delay: 60ns; DatasheetVersion: Rev. C; PackageVersion: 032707-B, 03/2007; PackageReference: RW-16; PackageDescription: 16-Pin Standard Small Outline Package, Body 10.3 x 7.5 mm, Pitch 1.27 mm; Supplier 1: Digi-Key; Supplier Part Number 1: ADUM5401WCRWZ-ND; Max Operating Temp (degreesC): 105; Mounting Technology: Surface Mount; Code_JEDEC: MS-013-AA; ComponentLink1Description: Manufacturer URL; ComponentLink1URL: http://www.analog.com/en/index.html; ComponentLink2Description: Datasheet; ComponentLink2URL: http://www.analog.com/static/imported-files/data_sheets/ADuM5401_5402_5403_5404.pdf; ComponentLink3Description: Package Specification; ComponentLink3URL: http://www.analog.com/static/imported-files/packages/PKG_PDF/SOIC_WIDE%20%28RW%29/RW_16.pdf; ComponentLink4Description: URL Link1; ComponentLink4URL: Reference Circuit:http://www.analog.com/en/interface-isolation/digital-isolators/adum5401/products/product.html#product-recommendations
footprint ADI-RW-16_N (SOIC, 16-Leads, Body 10.3x7.5mm, Pitch 1.27mm, IPC Medium Density)
footprint ADI-RW-16_L (SOIC, 16-Leads, Body 10.3x7.5mm, Pitch 1.27mm, IPC High Density)
footprint ADI-RW-16_M (SOIC, 16-Leads, Body 10.3x7.5mm, Pitch 1.27mm, IPC Low Density)
pins: 1 VDD1 (power) "Primary Supply Voltage, 3.0 V to 5.5 V.", 2 GND1 (power) "Ground 1. Ground reference for isolator primary. Pin 2 and Pin 8 are internally connected, and it is recommended that both pins be connected to a common ground.", 3 VIA (in) "Logic Input A.", 4 VIB (in) "Logic Input B.", 5 VIC (in) "Logic Input C.", 6 VOD (hiz) "Logic Output D.", 7 RCOUT (out) "Regulation Control Output. This pin is connected to the RCIN pin of a slave isoPower device to allow the ADuM5401 to control the regulation of the slave device.", 8 GND1 (power) "Ground 1. Ground reference for isolator primary. Pin 2 and Pin 8 are internally connected, and it is recommended that both pins be connected to a common ground.", 9 GNDISO (power) "Ground Reference for Isolator Side 2. Pin 9 and Pin 15 are internally connected, and it is recommended that both pins be connected to a common ground.", 10 VSEL (in) "Output Voltage Selection. When VSEL = VISO, the VISO setpoint is 5.0 V. When VSEL = GNDISO, the VISO setpoint is 3.3 V.", 11 VID (in) "Logic Input D.", 12 VOC (hiz) "Logic Output C.", 13 VOB (hiz) "Logic Output B.", 14 VOA (hiz) "Logic Output A.", 15 GNDISO (power) "Ground Reference for Isolator Side 2. Pin 9 and Pin 15 are internally connected, and it is recommended that both pins be connected to a common ground.", 16 VISO (power) "Secondary Supply Voltage Output for External Loads, 3.3 V (VSEL Low) or 5.0 V (VSEL High)."

## ADUM5401WCRWZ-1
designator U?
Quad Channel Isolator with Integrated DC / DC Converter, 2.5 KV rms Insulation Rating, 25 Mbps Data Rate, 60 ns Delay, Automotive, 16-pin SOIC (RW-16), Tube; Manufacturer: Analog Devices; PartNumber: ADUM5401WCRWZ-1; Automotive Qualified: Yes; Insulation Rating (kVrms): 2.5; Max Data Rate: 25Mbps; Prop Delay: 60ns; DatasheetVersion: Rev. C; PackageVersion: 032707-B, 03/2007; PackageReference: RW-16; PackageDescription: 16-Pin Standard Small Outline Package, Body 10.3 x 7.5 mm, Pitch 1.27 mm; Supplier 1: Digi-Key; Supplier Part Number 1: ADUM5401WCRWZ-1-ND; Max Operating Temp (degreesC): 105; Mounting Technology: Surface Mount; Code_JEDEC: MS-013-AA; ComponentLink1Description: Manufacturer URL; ComponentLink1URL: http://www.analog.com/en/index.html; ComponentLink2Description: Datasheet; ComponentLink2URL: http://www.analog.com/static/imported-files/data_sheets/ADuM5401_5402_5403_5404.pdf; ComponentLink3Description: Package Specification; ComponentLink3URL: http://www.analog.com/static/imported-files/packages/PKG_PDF/SOIC_WIDE%20%28RW%29/RW_16.pdf; ComponentLink4Description: URL Link1; ComponentLink4URL: Reference Circuit:http://www.analog.com/en/interface-isolation/digital-isolators/adum5401/products/product.html#product-recommendations
footprint ADI-RW-16_N (SOIC, 16-Leads, Body 10.3x7.5mm, Pitch 1.27mm, IPC Medium Density)
footprint ADI-RW-16_L (SOIC, 16-Leads, Body 10.3x7.5mm, Pitch 1.27mm, IPC High Density)
footprint ADI-RW-16_M (SOIC, 16-Leads, Body 10.3x7.5mm, Pitch 1.27mm, IPC Low Density)
pins: 1 VDD1 (power) "Primary Supply Voltage, 3.0 V to 5.5 V.", 2 GND1 (power) "Ground 1. Ground reference for isolator primary. Pin 2 and Pin 8 are internally connected, and it is recommended that both pins be connected to a common ground.", 3 VIA (in) "Logic Input A.", 4 VIB (in) "Logic Input B.", 5 VIC (in) "Logic Input C.", 6 VOD (hiz) "Logic Output D.", 7 RCOUT (out) "Regulation Control Output. This pin is connected to the RCIN pin of a slave isoPower device to allow the ADuM5401 to control the regulation of the slave device.", 8 GND1 (power) "Ground 1. Ground reference for isolator primary. Pin 2 and Pin 8 are internally connected, and it is recommended that both pins be connected to a common ground.", 9 GNDISO (power) "Ground Reference for Isolator Side 2. Pin 9 and Pin 15 are internally connected, and it is recommended that both pins be connected to a common ground.", 10 VSEL (in) "Output Voltage Selection. When VSEL = VISO, the VISO setpoint is 5.0 V. When VSEL = GNDISO, the VISO setpoint is 3.3 V.", 11 VID (in) "Logic Input D.", 12 VOC (hiz) "Logic Output C.", 13 VOB (hiz) "Logic Output B.", 14 VOA (hiz) "Logic Output A.", 15 GNDISO (power) "Ground Reference for Isolator Side 2. Pin 9 and Pin 15 are internally connected, and it is recommended that both pins be connected to a common ground.", 16 VISO (power) "Secondary Supply Voltage Output for External Loads, 3.3 V (VSEL Low) or 5.0 V (VSEL High)."

## ADUM5401WCRWZ-1RL
designator U?
Quad Channel Isolator with Integrated DC / DC Converter, 2.5 KV rms Insulation Rating, 25 Mbps Data Rate, 60 ns Delay, Automotive, 16-pin SOIC (RW-16), Reel; Manufacturer: Analog Devices; PartNumber: ADUM5401WCRWZ-1RL; Automotive Qualified: Yes; Insulation Rating (kVrms): 2.5; Max Data Rate: 25Mbps; Prop Delay: 60ns; DatasheetVersion: Rev. C; PackageVersion: 032707-B, 03/2007; PackageReference: RW-16; PackageDescription: 16-Pin Standard Small Outline Package, Body 10.3 x 7.5 mm, Pitch 1.27 mm; Supplier 1: Digi-Key; Supplier Part Number 1: ADUM5401WCRWZ-1RL-ND; Max Operating Temp (degreesC): 105; Mounting Technology: Surface Mount; Code_JEDEC: MS-013-AA; ComponentLink1Description: Manufacturer URL; ComponentLink1URL: http://www.analog.com/en/index.html; ComponentLink2Description: Datasheet; ComponentLink2URL: http://www.analog.com/static/imported-files/data_sheets/ADuM5401_5402_5403_5404.pdf; ComponentLink3Description: Package Specification; ComponentLink3URL: http://www.analog.com/static/imported-files/packages/PKG_PDF/SOIC_WIDE%20%28RW%29/RW_16.pdf; ComponentLink4Description: URL Link1; ComponentLink4URL: Reference Circuit:http://www.analog.com/en/interface-isolation/digital-isolators/adum5401/products/product.html#product-recommendations
footprint ADI-RW-16_N (SOIC, 16-Leads, Body 10.3x7.5mm, Pitch 1.27mm, IPC Medium Density)
footprint ADI-RW-16_L (SOIC, 16-Leads, Body 10.3x7.5mm, Pitch 1.27mm, IPC High Density)
footprint ADI-RW-16_M (SOIC, 16-Leads, Body 10.3x7.5mm, Pitch 1.27mm, IPC Low Density)
pins: 1 VDD1 (power) "Primary Supply Voltage, 3.0 V to 5.5 V.", 2 GND1 (power) "Ground 1. Ground reference for isolator primary. Pin 2 and Pin 8 are internally connected, and it is recommended that both pins be connected to a common ground.", 3 VIA (in) "Logic Input A.", 4 VIB (in) "Logic Input B.", 5 VIC (in) "Logic Input C.", 6 VOD (hiz) "Logic Output D.", 7 RCOUT (out) "Regulation Control Output. This pin is connected to the RCIN pin of a slave isoPower device to allow the ADuM5401 to control the regulation of the slave device.", 8 GND1 (power) "Ground 1. Ground reference for isolator primary. Pin 2 and Pin 8 are internally connected, and it is recommended that both pins be connected to a common ground.", 9 GNDISO (power) "Ground Reference for Isolator Side 2. Pin 9 and Pin 15 are internally connected, and it is recommended that both pins be connected to a common ground.", 10 VSEL (in) "Output Voltage Selection. When VSEL = VISO, the VISO setpoint is 5.0 V. When VSEL = GNDISO, the VISO setpoint is 3.3 V.", 11 VID (in) "Logic Input D.", 12 VOC (hiz) "Logic Output C.", 13 VOB (hiz) "Logic Output B.", 14 VOA (hiz) "Logic Output A.", 15 GNDISO (power) "Ground Reference for Isolator Side 2. Pin 9 and Pin 15 are internally connected, and it is recommended that both pins be connected to a common ground.", 16 VISO (power) "Secondary Supply Voltage Output for External Loads, 3.3 V (VSEL Low) or 5.0 V (VSEL High)."

## ADUM5401WCRWZ-RL
designator U?
Quad Channel Isolator with Integrated DC / DC Converter, 2.5 KV rms Insulation Rating, 25 Mbps Data Rate, 60 ns Delay, Automotive, 16-pin SOIC (RW-16), Reel; Manufacturer: Analog Devices; PartNumber: ADUM5401WCRWZ-RL; Automotive Qualified: Yes; Insulation Rating (kVrms): 2.5; Max Data Rate: 25Mbps; Prop Delay: 60ns; DatasheetVersion: Rev. C; PackageVersion: 032707-B, 03/2007; PackageReference: RW-16; PackageDescription: 16-Pin Standard Small Outline Package, Body 10.3 x 7.5 mm, Pitch 1.27 mm; Supplier 1: Digi-Key; Supplier Part Number 1: ADUM5401WCRWZ-RL-ND; Max Operating Temp (degreesC): 105; Mounting Technology: Surface Mount; Code_JEDEC: MS-013-AA; ComponentLink1Description: Manufacturer URL; ComponentLink1URL: http://www.analog.com/en/index.html; ComponentLink2Description: Datasheet; ComponentLink2URL: http://www.analog.com/static/imported-files/data_sheets/ADuM5401_5402_5403_5404.pdf; ComponentLink3Description: Package Specification; ComponentLink3URL: http://www.analog.com/static/imported-files/packages/PKG_PDF/SOIC_WIDE%20%28RW%29/RW_16.pdf; ComponentLink4Description: URL Link1; ComponentLink4URL: Reference Circuit:http://www.analog.com/en/interface-isolation/digital-isolators/adum5401/products/product.html#product-recommendations
footprint ADI-RW-16_N (SOIC, 16-Leads, Body 10.3x7.5mm, Pitch 1.27mm, IPC Medium Density)
footprint ADI-RW-16_L (SOIC, 16-Leads, Body 10.3x7.5mm, Pitch 1.27mm, IPC High Density)
footprint ADI-RW-16_M (SOIC, 16-Leads, Body 10.3x7.5mm, Pitch 1.27mm, IPC Low Density)
pins: 1 VDD1 (power) "Primary Supply Voltage, 3.0 V to 5.5 V.", 2 GND1 (power) "Ground 1. Ground reference for isolator primary. Pin 2 and Pin 8 are internally connected, and it is recommended that both pins be connected to a common ground.", 3 VIA (in) "Logic Input A.", 4 VIB (in) "Logic Input B.", 5 VIC (in) "Logic Input C.", 6 VOD (hiz) "Logic Output D.", 7 RCOUT (out) "Regulation Control Output. This pin is connected to the RCIN pin of a slave isoPower device to allow the ADuM5401 to control the regulation of the slave device.", 8 GND1 (power) "Ground 1. Ground reference for isolator primary. Pin 2 and Pin 8 are internally connected, and it is recommended that both pins be connected to a common ground.", 9 GNDISO (power) "Ground Reference for Isolator Side 2. Pin 9 and Pin 15 are internally connected, and it is recommended that both pins be connected to a common ground.", 10 VSEL (in) "Output Voltage Selection. When VSEL = VISO, the VISO setpoint is 5.0 V. When VSEL = GNDISO, the VISO setpoint is 3.3 V.", 11 VID (in) "Logic Input D.", 12 VOC (hiz) "Logic Output C.", 13 VOB (hiz) "Logic Output B.", 14 VOA (hiz) "Logic Output A.", 15 GNDISO (power) "Ground Reference for Isolator Side 2. Pin 9 and Pin 15 are internally connected, and it is recommended that both pins be connected to a common ground.", 16 VISO (power) "Secondary Supply Voltage Output for External Loads, 3.3 V (VSEL Low) or 5.0 V (VSEL High)."

## ADUM5402ARWZ
designator U?
Quad Channel Isolator with Integrated DC / DC Converter, 2.5 KV rms Insulation Rating, 1 Mbps Data Rate, 100 ns Delay, Industrial, 16-pin SOIC (RW-16), Tube; Manufacturer: Analog Devices; PartNumber: ADUM5402ARWZ; Insulation Rating (kVrms): 2.5; Max Data Rate: 1Mbps; Prop Delay: 100ns; DatasheetVersion: Rev. C; PackageVersion: 032707-B, 03/2007; PackageReference: RW-16; PackageDescription: 16-Pin Standard Small Outline Package, Body 10.3 x 7.5 mm, Pitch 1.27 mm; Supplier 1: Digi-Key; Supplier Part Number 1: ADUM5402ARWZ-ND; Max Operating Temp (degreesC): 105; Mounting Technology: Surface Mount; Code_JEDEC: MS-013-AA; ComponentLink1Description: Manufacturer URL; ComponentLink1URL: http://www.analog.com/en/index.html; ComponentLink2Description: Datasheet; ComponentLink2URL: http://www.analog.com/static/imported-files/data_sheets/ADuM5401_5402_5403_5404.pdf; ComponentLink3Description: Package Specification; ComponentLink3URL: http://www.analog.com/static/imported-files/packages/PKG_PDF/SOIC_WIDE%20%28RW%29/RW_16.pdf; ComponentLink4Description: URL Link1; ComponentLink4URL: Reference Circuit:http://www.analog.com/en/interface-isolation/digital-isolators/adum5402/products/product.html#product-recommendations
footprint ADI-RW-16_N (SOIC, 16-Leads, Body 10.3x7.5mm, Pitch 1.27mm, IPC Medium Density)
footprint ADI-RW-16_L (SOIC, 16-Leads, Body 10.3x7.5mm, Pitch 1.27mm, IPC High Density)
footprint ADI-RW-16_M (SOIC, 16-Leads, Body 10.3x7.5mm, Pitch 1.27mm, IPC Low Density)
pins: 1 VDD1 (power) "Primary Supply Voltage, 3.0 V to 5.5 V.", 2 GND1 (power) "Ground 1. Ground reference for isolator primary. Pin 2 and Pin 8 are internally connected, and it is recommended that both pins be connected to a common ground.", 3 VIA (in) "Logic Input A.", 4 VIB (in) "Logic Input B.", 5 VOC (hiz) "Logic Output C.", 6 VOD (hiz) "Logic Output D.", 7 RCOUT (out) "Regulation Control Output. This pin is connected to the RCIN pin of a slave isoPower device to allow the ADuM5402 to control the regulation of the slave device.", 8 GND1 (power) "Ground 1. Ground reference for isolator primary. Pin 2 and Pin 8 are internally connected, and it is recommended that both pins be connected to a common ground.", 9 GNDISO (power) "Ground Reference for Isolator Side 2. Pin 9 and Pin 15 are internally connected, and it is recommended that both pins be connected to a common ground.", 10 VSEL (in) "Output Voltage Selection. When VSEL = VISO, the VISO setpoint is 5.0 V. When VSEL = GNDISO, the VISO setpoint is 3.3 V.", 11 VID (in) "Logic Input D.", 12 VIC (in) "Logic Input C.", 13 VOB (hiz) "Logic Output B.", 14 VOA (hiz) "Logic Output A.", 15 GNDISO (power) "Ground Reference for Isolator Side 2. Pin 9 and Pin 15 are internally connected, and it is recommended that both pins be connected to a common ground.", 16 VISO (power) "Secondary Supply Voltage Output for External Loads, 3.3 V (VSEL Low) or 5.0 V (VSEL High)."

## ADUM5402ARWZ-RL
designator U?
Quad Channel Isolator with Integrated DC / DC Converter, 2.5 KV rms Insulation Rating, 1 Mbps Data Rate, 100 ns Delay, Industrial, 16-pin SOIC (RW-16), Reel; Manufacturer: Analog Devices; PartNumber: ADUM5402ARWZ-RL; Insulation Rating (kVrms): 2.5; Max Data Rate: 1Mbps; Prop Delay: 100ns; DatasheetVersion: Rev. C; PackageVersion: 032707-B, 03/2007; PackageReference: RW-16; PackageDescription: 16-Pin Standard Small Outline Package, Body 10.3 x 7.5 mm, Pitch 1.27 mm; Supplier 1: Digi-Key; Supplier Part Number 1: ADUM5402ARWZ-RLTR-ND; Max Operating Temp (degreesC): 105; Mounting Technology: Surface Mount; Code_JEDEC: MS-013-AA; ComponentLink1Description: Manufacturer URL; ComponentLink1URL: http://www.analog.com/en/index.html; ComponentLink2Description: Datasheet; ComponentLink2URL: http://www.analog.com/static/imported-files/data_sheets/ADuM5401_5402_5403_5404.pdf; ComponentLink3Description: Package Specification; ComponentLink3URL: http://www.analog.com/static/imported-files/packages/PKG_PDF/SOIC_WIDE%20%28RW%29/RW_16.pdf; ComponentLink4Description: URL Link1; ComponentLink4URL: Reference Circuit:http://www.analog.com/en/interface-isolation/digital-isolators/adum5402/products/product.html#product-recommendations
footprint ADI-RW-16_N (SOIC, 16-Leads, Body 10.3x7.5mm, Pitch 1.27mm, IPC Medium Density)
footprint ADI-RW-16_L (SOIC, 16-Leads, Body 10.3x7.5mm, Pitch 1.27mm, IPC High Density)
footprint ADI-RW-16_M (SOIC, 16-Leads, Body 10.3x7.5mm, Pitch 1.27mm, IPC Low Density)
pins: 1 VDD1 (power) "Primary Supply Voltage, 3.0 V to 5.5 V.", 2 GND1 (power) "Ground 1. Ground reference for isolator primary. Pin 2 and Pin 8 are internally connected, and it is recommended that both pins be connected to a common ground.", 3 VIA (in) "Logic Input A.", 4 VIB (in) "Logic Input B.", 5 VOC (hiz) "Logic Output C.", 6 VOD (hiz) "Logic Output D.", 7 RCOUT (out) "Regulation Control Output. This pin is connected to the RCIN pin of a slave isoPower device to allow the ADuM5402 to control the regulation of the slave device.", 8 GND1 (power) "Ground 1. Ground reference for isolator primary. Pin 2 and Pin 8 are internally connected, and it is recommended that both pins be connected to a common ground.", 9 GNDISO (power) "Ground Reference for Isolator Side 2. Pin 9 and Pin 15 are internally connected, and it is recommended that both pins be connected to a common ground.", 10 VSEL (in) "Output Voltage Selection. When VSEL = VISO, the VISO setpoint is 5.0 V. When VSEL = GNDISO, the VISO setpoint is 3.3 V.", 11 VID (in) "Logic Input D.", 12 VIC (in) "Logic Input C.", 13 VOB (hiz) "Logic Output B.", 14 VOA (hiz) "Logic Output A.", 15 GNDISO (power) "Ground Reference for Isolator Side 2. Pin 9 and Pin 15 are internally connected, and it is recommended that both pins be connected to a common ground.", 16 VISO (power) "Secondary Supply Voltage Output for External Loads, 3.3 V (VSEL Low) or 5.0 V (VSEL High)."

## ADUM5402CRWZ
designator U?
Quad Channel Isolator with Integrated DC / DC Converter, 2.5 KV rms Insulation Rating, 25 Mbps Data Rate, 60 ns Delay, Industrial, 16-pin SOIC (RW-16), Tube; Manufacturer: Analog Devices; PartNumber: ADUM5402CRWZ; Insulation Rating (kVrms): 2.5; Max Data Rate: 25Mbps; Prop Delay: 60ns; DatasheetVersion: Rev. C; PackageVersion: 032707-B, 03/2007; PackageReference: RW-16; PackageDescription: 16-Pin Standard Small Outline Package, Body 10.3 x 7.5 mm, Pitch 1.27 mm; Supplier 1: Digi-Key; Supplier Part Number 1: ADUM5402CRWZ-ND; Max Operating Temp (degreesC): 105; Mounting Technology: Surface Mount; Code_JEDEC: MS-013-AA; ComponentLink1Description: Manufacturer URL; ComponentLink1URL: http://www.analog.com/en/index.html; ComponentLink2Description: Datasheet; ComponentLink2URL: http://www.analog.com/static/imported-files/data_sheets/ADuM5401_5402_5403_5404.pdf; ComponentLink3Description: Package Specification; ComponentLink3URL: http://www.analog.com/static/imported-files/packages/PKG_PDF/SOIC_WIDE%20%28RW%29/RW_16.pdf; ComponentLink4Description: URL Link1; ComponentLink4URL: Reference Circuit:http://www.analog.com/en/interface-isolation/digital-isolators/adum5402/products/product.html#product-recommendations
footprint ADI-RW-16_N (SOIC, 16-Leads, Body 10.3x7.5mm, Pitch 1.27mm, IPC Medium Density)
footprint ADI-RW-16_L (SOIC, 16-Leads, Body 10.3x7.5mm, Pitch 1.27mm, IPC High Density)
footprint ADI-RW-16_M (SOIC, 16-Leads, Body 10.3x7.5mm, Pitch 1.27mm, IPC Low Density)
pins: 1 VDD1 (power) "Primary Supply Voltage, 3.0 V to 5.5 V.", 2 GND1 (power) "Ground 1. Ground reference for isolator primary. Pin 2 and Pin 8 are internally connected, and it is recommended that both pins be connected to a common ground.", 3 VIA (in) "Logic Input A.", 4 VIB (in) "Logic Input B.", 5 VOC (hiz) "Logic Output C.", 6 VOD (hiz) "Logic Output D.", 7 RCOUT (out) "Regulation Control Output. This pin is connected to the RCIN pin of a slave isoPower device to allow the ADuM5402 to control the regulation of the slave device.", 8 GND1 (power) "Ground 1. Ground reference for isolator primary. Pin 2 and Pin 8 are internally connected, and it is recommended that both pins be connected to a common ground.", 9 GNDISO (power) "Ground Reference for Isolator Side 2. Pin 9 and Pin 15 are internally connected, and it is recommended that both pins be connected to a common ground.", 10 VSEL (in) "Output Voltage Selection. When VSEL = VISO, the VISO setpoint is 5.0 V. When VSEL = GNDISO, the VISO setpoint is 3.3 V.", 11 VID (in) "Logic Input D.", 12 VIC (in) "Logic Input C.", 13 VOB (hiz) "Logic Output B.", 14 VOA (hiz) "Logic Output A.", 15 GNDISO (power) "Ground Reference for Isolator Side 2. Pin 9 and Pin 15 are internally connected, and it is recommended that both pins be connected to a common ground.", 16 VISO (power) "Secondary Supply Voltage Output for External Loads, 3.3 V (VSEL Low) or 5.0 V (VSEL High)."